# Altium schematic symbol library STEREO_JACK.Schlib: 1 symbol
Pins are listed as number, name and electrical type; pins without a type are passive.

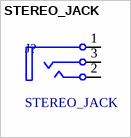
[diagram p0: symbol STEREO_JACK]

## STEREO_JACK
designator J?
pins: 1 Ground (power) "Outer Shield (Sleeve)", 2 Signal, 3 Signal